# Altium schematic symbol library LCD16X2.Schlib: 1 symbol
Pins are listed as number, name and electrical type; pins without a type are passive.

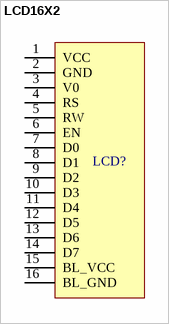
[diagram p0: symbol LCD16X2]

## LCD16X2
designator LCD?
16X2 LCD
pins: 1 VCC, 2 GND, 3 V0, 4 RS, 5 RW, 6 EN, 7 D0, 8 D1, 9 D2, 10 D3, 11 D4, 12 D5, 13 D6, 14 D7, 15 BL_VCC, 16 BL_GND